# Altium schematic symbol library Reflow Oven Controller - Rev. A.SchLib: 5 symbols
Pins are listed as number, name and electrical type; pins without a type are passive.

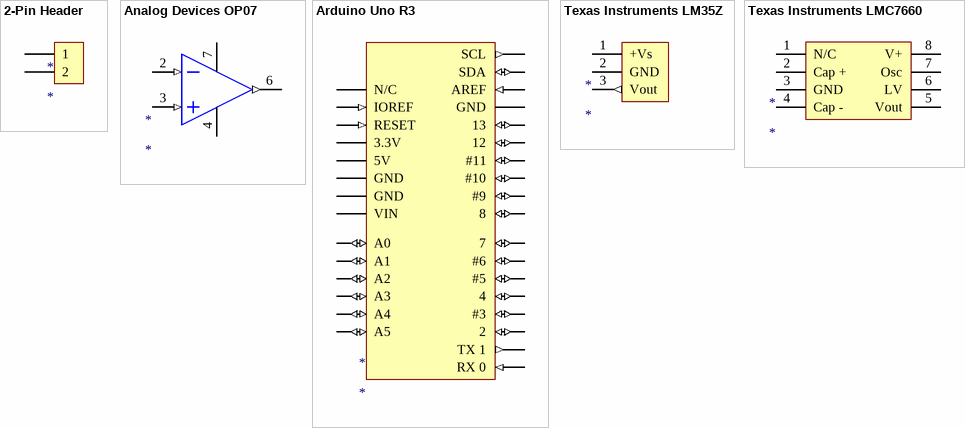
[diagram p0: symbols 2-Pin Header to Texas Instruments LMC7660]

## 2-Pin Header
designator *
2-Pin Header
pins: 1, 2

## Analog Devices OP07
designator *
Low Offset Op-Amp
pins: 2 -In (in), 3 +In (in), 4 V- (power), 6 OUT (out), 7 V+ (power)

## Arduino Uno R3
designator *
Open-Source Prototyping Plaform
pins: 1 N/C, 2 IOREF (in), 3 RESET (in), 4 3.3V (power), 5 5V (power), 6 GND (power), 7 GND (power), 8 VIN (power), 9 A0 (io), 10 A1 (io), 11 A2 (io), 12 A3 (io), 13 A4 (io), 14 A5 (io), 15 RX 0 (in), 16 TX 1 (out), 17 2 (io), 18 #3 (io), 19 4 (io), 20 #5 (io), 21 #6 (io), 22 7 (io), 23 8 (io), 24 #9 (io), 25 #10 (io), 26 #11 (io), 27 12 (io), 28 13 (io), 28 GND (power), 28 AREF (in), 28 SDA (io), 29 SCL (out)

## Texas Instruments LM35Z
designator *
Celsius Temperature Sensor (TO-92)
pins: 1 +Vs (power), 2 GND (power), 3 Vout (out)

## Texas Instruments LMC7660
designator *
Switched Capacitor Voltage Converter
pins: 1 N/C, 2 Cap +, 3 GND (power), 4 Cap -, 5 Vout (power), 6 LV, 7 Osc, 8 V+ (power)